# Altium footprint library can_3.5_0.PcbLib: 1 footprints
Each footprint in its own frame and in the unit in brackets; x right, y up, seen from the top. Pads: shape width x height; smd on the part's side, far side on the other; paste and mask are expansions set on the pad; w line width, h text height; cw(c..) or ccw(c..) is an arc to the next point about the centre after c.
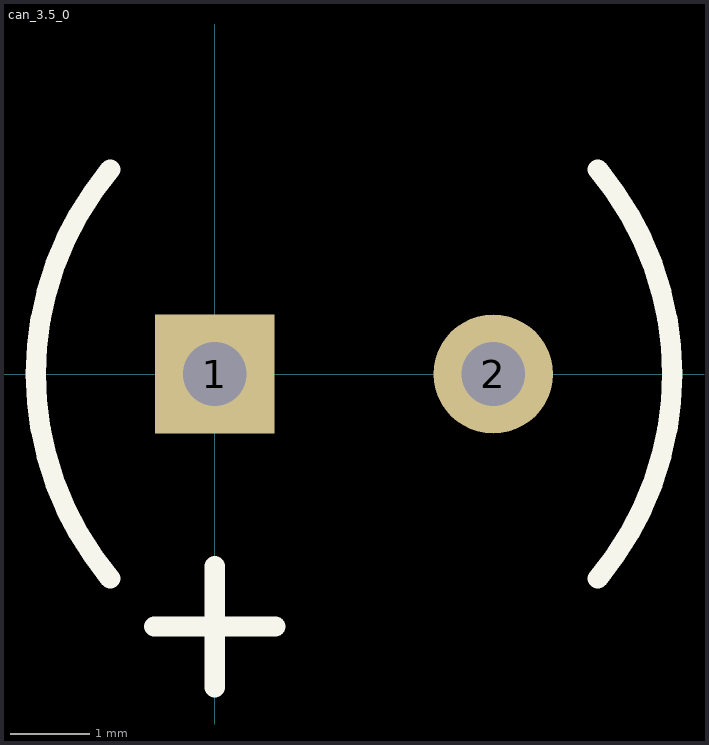
[diagram p0: the footprint, top view; thin cyan lines are the x and y axes]

## can_3.5_0 [mm] "2 Leaded Al Cap, 3.5mm spacing, 8mm diameter"
height 20
pads (2):
  rect 1.5x1.5 hole 0.8: 1(0,0)
  round 1.5 hole 0.8: 2(3.5,0)
Top Overlay:
  lines w0.254: -1.314,-2.571 cw(c1.75,0) -1.314,2.571 ; -0.762,-3.175 0.762,-3.175 ; 0,-3.937 0,-2.413 ; 4.814,-2.571 ccw(c1.75,0) 4.814,2.571